# EAGLE library part F15HP (library act-global-nolan)
SUB-D
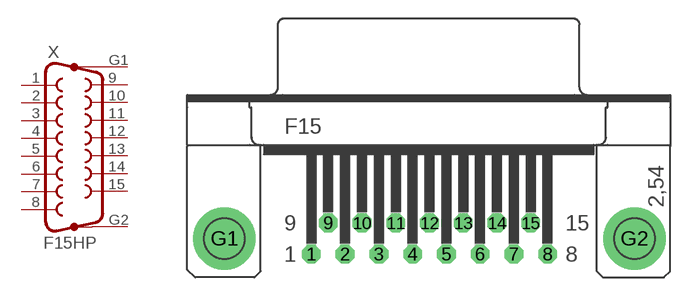
[diagram p36: symbol with the pads of F15HP; footprint F15HP]

Designator prefix X

## F15HP (OC_FARNELL: unknown; OC_NEWARK: unknown)  [F15HP]
1  1  pas
2  2  pas
3  3  pas
4  4  pas
5  5  pas
6  6  pas
7  7  pas
8  8  pas
9  9  pas
10  10  pas
11  11  pas
12  12  pas
13  13  pas
14  14  pas
15  15  pas
G1  G1  pas
G2  G2  pas

## Footprint F15HP (pad centres in mm)
SUB-D
drill 1.016 octagon: 1 -9.601,-1.27; 2 -6.858,-1.27; 3 -4.115,-1.27; 4 -1.372,-1.27; 5 1.372,-1.27; 6 4.115,-1.27; 7 6.858,-1.27; 8 9.601,-1.27; 9 -8.23,1.27; 10 -5.486,1.27; 11 -2.743,1.27; 12 0,1.27; 13 2.743,1.27; 14 5.486,1.27; 15 8.23,1.27
drill 3.302 pad 5.08: G1 -16.662,0; G2 16.662,0